# Altium integrated library CC0603KRX5R8BB105.IntLib: 1 symbol
Pins are listed as number, name and electrical type; pins without a type are passive.

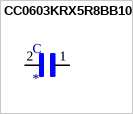
[diagram p0: symbol CC0603KRX5R8BB105]

## CC0603KRX5R8BB105
designator C
Керамический конденсатор 1 мкФ ± 10% 25 В X5R 0603 _1608 метрических_; MF: Yageo; MP: CC0603KRX5R8BB105
footprint CAPC1608X90
pins: 1, 2